# Altium schematic symbol library type-c-31-m-12.SchLib: 1 symbol
Pins are listed as number, name and electrical type; pins without a type are passive.

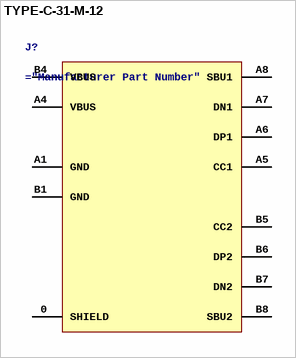
[diagram p0: symbol TYPE-C-31-M-12]

## TYPE-C-31-M-12
designator J?
5A 1 16P Female Type-C SMD USB Connectors ROHS
pins: 0 SHIELD (power), A1 GND (power), A4 VBUS (power), A5 CC1, A6 DP1, A7 DN1, A8 SBU1, B1 GND (power), B4 VBUS, B5 CC2, B6 DP2, B7 DN2, B8 SBU2